# Altium footprint library PcbLib1.PcbLib: 6 footprints
Each footprint in its own frame and in the unit in brackets; x right, y up, seen from the top. Pads: shape width x height; smd on the part's side, far side on the other; paste and mask are expansions set on the pad; w line width, h text height; cw(c..) or ccw(c..) is an arc to the next point about the centre after c.
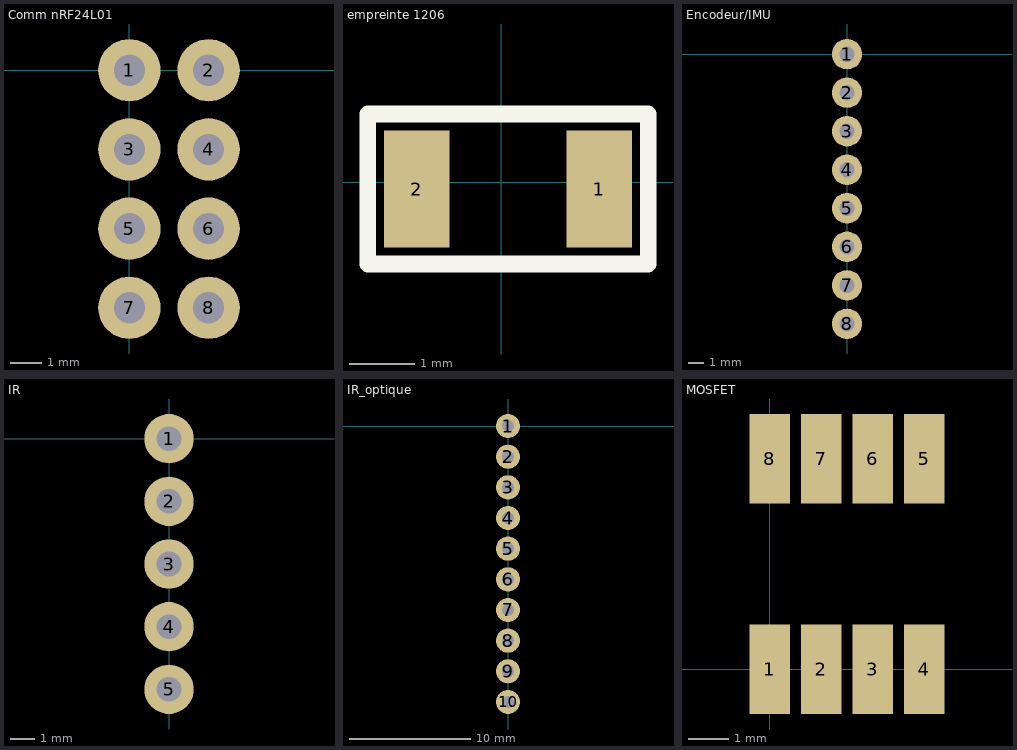
[diagram p0: the footprints below, top view; thin cyan lines are the x and y axes]

## Comm nRF24L01 [mm] "Module communication"
pads (8):
  round 2 hole 1: 1(0,0) 2(2.54,0) 3(0,-2.54) 4(2.54,-2.54) 5(0,-5.08) 6(2.54,-5.08) 7(0,-7.62) 8(2.54,-7.62)
3D body: height 14.85, standoff 1, extent -1.76,-13.322 31.349,1.74
3D body: height 4.5, standoff -3.15, extent -1.18,-8.94 3.9,1.22

## empreinte 1206 [mm] "empreinte1206"
pads (2):
  rect 1x1.8 smd: 1(1.5,-0.1) 2(-1.3,-0.1)
Top Overlay:
  lines w0.254: -2.05,-1.25 2.25,-1.25 2.25,1.05 -2.05,1.05 -2.05,-1.25
3D body: height 1, standoff 0, extent -1.5,-0.9 1.7,0.7

## Encodeur/IMU [mm] "Encodeur et IMU 8 broches 2.54 mm"
pads (8):
  round 2 hole 1: 1(0,0) 2(0,-2.54) 3(0,-5.08) 4(0,-7.62) 5(0,-10.16) 6(0,-12.7) 7(0,-15.24) 8(0,-17.78)
3D body: height 7, standoff -3.1, extent -1.37,-44.36 1.13,1.36

## IR [mm] "empreinte partie IR dribleur"
pads (5):
  round 2 hole 1: 1(0,0) 2(0,-2.54) 3(0,-5.08) 4(0,-7.62) 5(0,-10.16)
3D body: height 6.02, standoff -3.1, extent -1.22,-11.51 1.32,1.19

## IR_optique [mm] "IR_optique"
pads (10):
  round 2 hole 1: 1(0,0) 2(0,-2.54) 3(0,-5.08) 4(0,-7.62) 5(0,-10.16) 6(0,-12.7) 7(0,-15.24) 8(0,-17.78) 9(0,-20.32) 10(0,-22.86)
3D body: height 9.29, standoff -2.59, extent -1.185,-24.81 1.29,1.19

## MOSFET [mm] "MOSFET irf7910"
pads (8):
  rect 1x2.2 smd: 1(0,0) 2(1.27,0) 3(2.54,0) 4(3.81,0) 5(3.81,5.19) 6(2.54,5.19) 7(1.27,5.19) 8(0,5.19)
3D body: height 1.7, standoff 0, extent -0.52,-0.48 4.38,5.52